# Altium integrated library MicroUSB2.0TypeAB.IntLib: 1 symbol
Pins are listed as number, name and electrical type; pins without a type are passive.

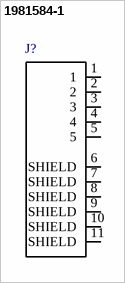
[diagram p0: symbol 1981584-1]

## 1981584-1
designator J?  (value not drawn)
Conn Micro USB 2.0 Type AB RCP 5 POS 0.65mm Solder RA SMD 5 Terminal 1 Port T/R; MF: TE Connectivity; TE_purchase_URL: https://www.te.com/usa-en/product-1981584-1.html?te_bu=Cor&te_type=disp&te_campaign=seda_glo_cor-seda-global-disp-prtnr-fy19-seda-model-bom-cta_sma-317_1&elqCampaignId=32493; Package: None; Availability: Unavailable; SnapEDA_Link: https://www.snapeda.com/parts/1981584-1/TE%20Connectivity%20AMP%20Connectors/view-part/?ref=snap; MP: 1981584-1; Price: None; Value: *
footprint TE_1981584-1
pins: 1, 2, 3, 4, 5, 6 SHIELD, 7 SHIELD, 8 SHIELD, 9 SHIELD, 10 SHIELD, 11 SHIELD